# Altium schematic symbol library разъемы импортные.SchLib: 50 symbols
Pins are listed as number, name and electrical type; pins without a type are passive.

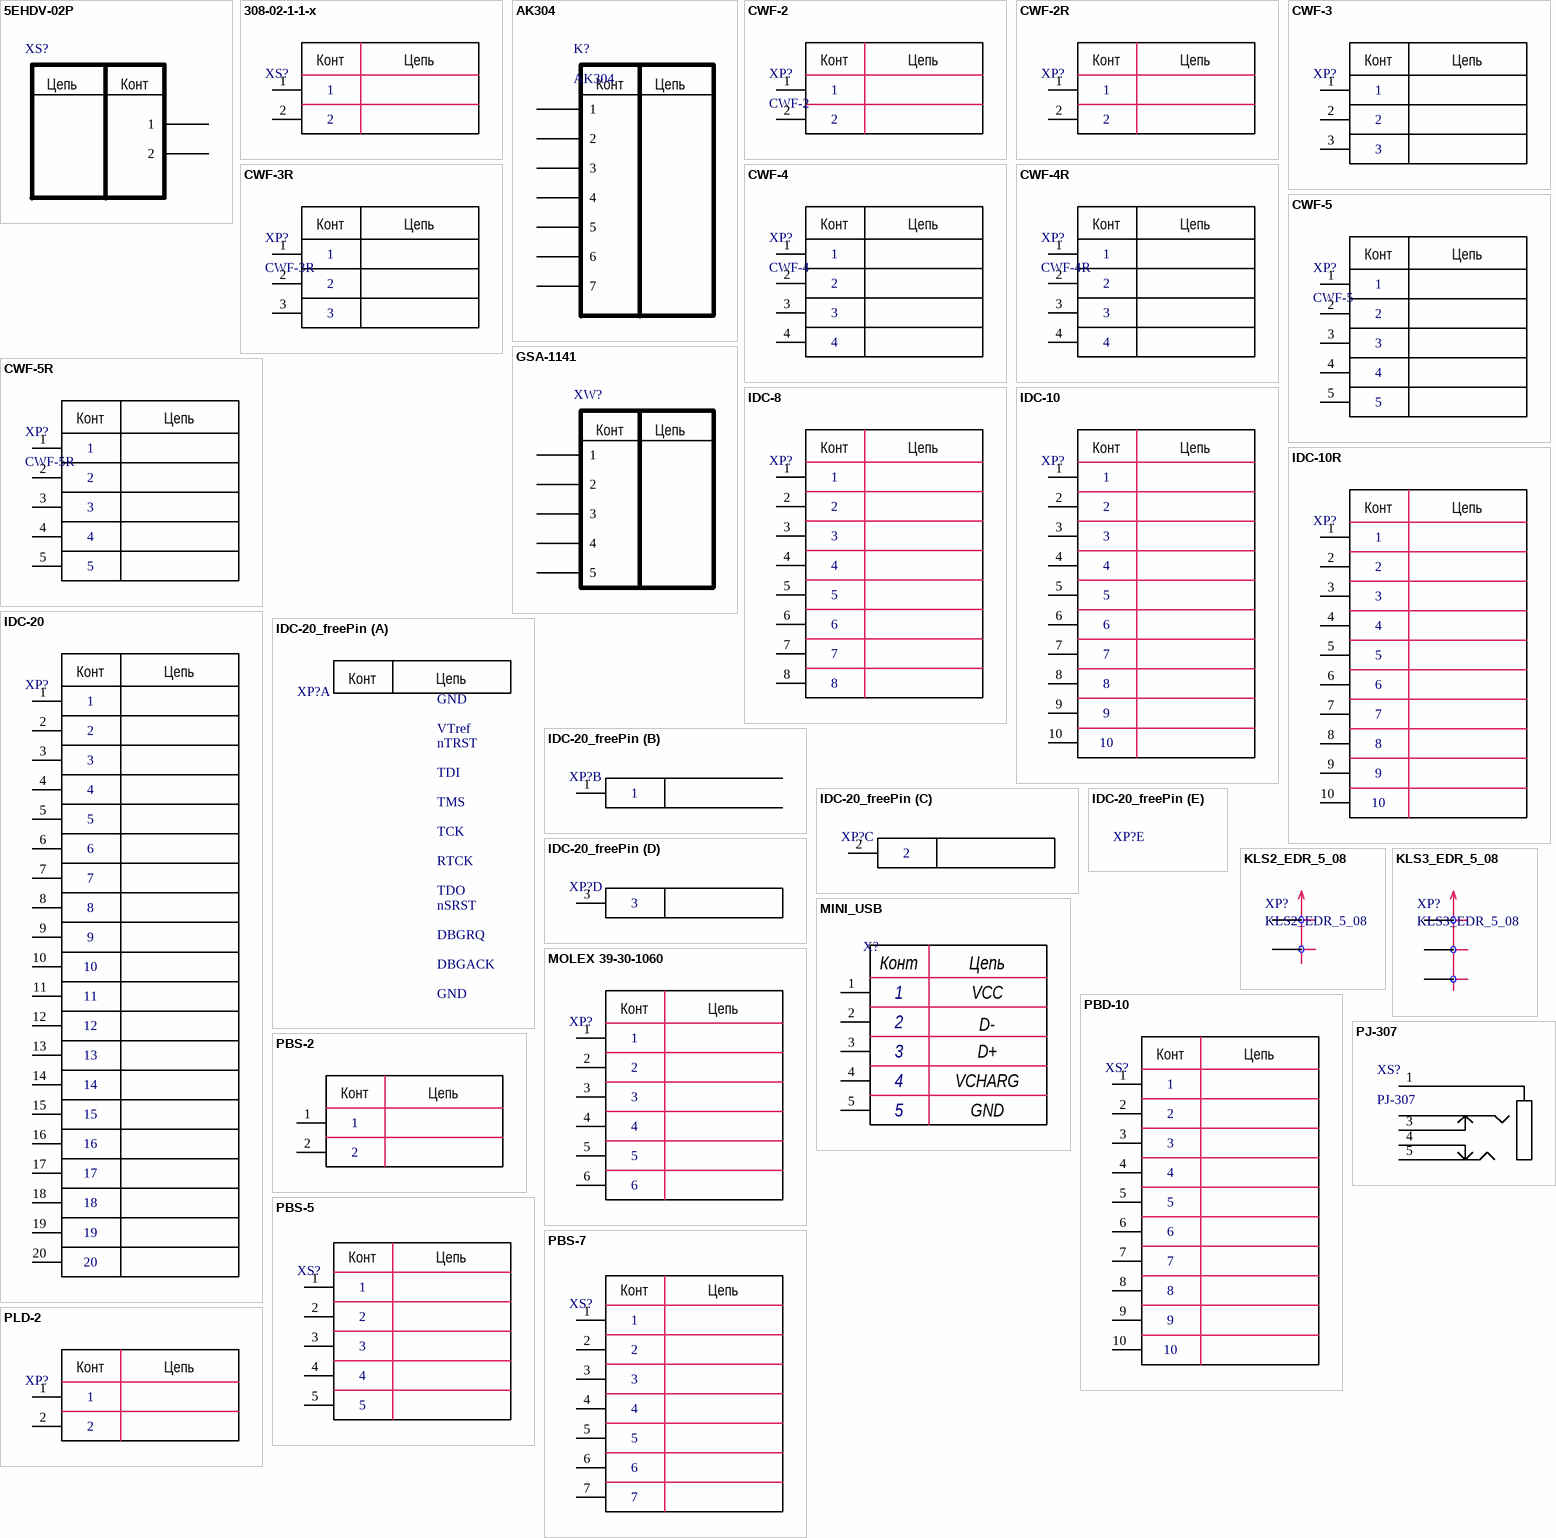
[diagram p0: symbols 5EHDV-02P to PLD-2]

## 5EHDV-02P
designator XS?  (value not drawn)
footprint 5EHDV-02P
pins: 1, 2
text: Цепь; Конт

## 308-02-1-1-x
designator XS?  (value not drawn)
footprint 308-02-1-1-x
pins: 1, 2
text: Конт; Цепь

## AK304
designator K?
footprint AK304
pins: 1, 2, 3, 4, 5, 6, 7
text: Конт; Цепь

## CWF-2
designator XP?
footprint CWF-2
pins: 1, 2
text: Конт; Цепь

## CWF-2R
designator XP?  (value not drawn)
footprint CWF-2R
pins: 1, 2
text: Конт; Цепь

## CWF-3
designator XP?  (value not drawn)
Manufacturer: Connfly electronic; ManufacturerPartNumber: DS1069-3MVW6X; Package: CWF-3
footprint CWF-3
pins: 1, 2, 3
text: Конт; Цепь

## CWF-3R
designator XP?
Manufacturer: Connfly electronic; ManufacturerPartNumber: DS1069-3MRW6SA; Package: CWF-3R
footprint CWF-3R
pins: 1, 2, 3
text: Конт; Цепь

## CWF-4
designator XP?
Manufacturer: Connfly electronic; ManufacturerPartNumber: DS1069-4MVW6X; Package: CWF-4
footprint CWF-4
pins: 1, 2, 3, 4
text: Конт; Цепь

## CWF-4R
designator XP?
Manufacturer: Connfly electronic; ManufacturerPartNumber: DS1069-4MRW6SA; Package: CWF-4R
footprint CWF-4R
pins: 1, 2, 3, 4
text: Конт; Цепь

## CWF-5
designator XP?
Manufacturer: Connfly electronic; ManufacturerPartNumber: DS1069-5MVW6X; Package: CWF-5
footprint CWF-5
pins: 1, 2, 3, 4, 5
text: Конт; Цепь

## CWF-5R
designator XP?
Manufacturer: Connfly electronic; ManufacturerPartNumber: DS1069-5MRW6SA; Package: CWF-5R
footprint CWF-5R
pins: 1, 2, 3, 4, 5
text: Конт; Цепь

## GSA-1141
designator XW?  (value not drawn)
footprint GSA-1141
pins: 1, 2, 3, 4, 5
text: Конт; Цепь

## IDC-8
designator XP?  (value not drawn)
footprint IDC-8
pins: 1, 2, 3, 4, 5, 6, 7, 8
text: Конт; Цепь

## IDC-10
designator XP?  (value not drawn)
footprint IDC-10
pins: 1, 2, 3, 4, 5, 6, 7, 8, 9, 10
text: Конт; Цепь

## IDC-10R
designator XP?  (value not drawn)
Manufacturer: Connfly electronic; ManufacturerPartNumber: DS1013-10RSiB-B-0; Package: IDC-10R
footprint IDC-10R
pins: 1, 2, 3, 4, 5, 6, 7, 8, 9, 10
text: Конт; Цепь

## IDC-20
designator XP?  (value not drawn)
footprint IDC-20S
footprint IDC-20R
pins: 1, 2, 3, 4, 5, 6, 7, 8, 9, 10, 11, 12, 13, 14, 15, 16, 17, 18, 19, 20
text: Конт; Цепь

## IDC-20_freePin
designator XP?, comment IDC-20  (value not drawn)
footprint IDC-20S
footprint IDC-20R
part B pins: 1
part C pins: 2
part D pins: 3
part A text: Конт; Цепь; GND; VTref; nTRST; TDI; TMS; TCK; RTCK; TDO; nSRST; DBGRQ; DBGACK

## KLS2_EDR_5_08
designator XP?
footprint KLS-EDR-5_08
pins: 1, 2

## KLS3_EDR_5_08
designator XP?
footprint KLS3-EDR-5_08
pins: 1, 2, 3

## MINI_USB
designator X?  (value not drawn)
footprint MINI_USB
pins: 1, 2, 3, 4, 5
text: Конт; Цепь; VCC; D-; D+; VCHARG; GND

## MOLEX 39-30-1060
designator XP?  (value not drawn)
footprint MOLEX 2*4 4.2mm
pins: 1, 2, 3, 4, 5, 6
text: Конт; Цепь

## PBD-10
designator XS?  (value not drawn)
Rem: *; Value: *; Tolerance: *; Power/Voltage: *; TKE: *; ManufacturerPartNumber: *; Manufacturer: *; Quantity: *; Примечание: *
footprint PBD-10
pins: 1, 2, 3, 4, 5, 6, 7, 8, 9, 10
text: Конт; Цепь

## PBS-2
designator XS?  (value not drawn)
Rem: *; Value: *; Tolerance: *; Power/Voltage: *; TKE: *; ManufacturerPartNumber: *; Manufacturer: *; Quantity: *; Примечание: *
footprint PBS-2
pins: 1, 2
text: Конт; Цепь

## PBS-5
designator XS?  (value not drawn)
Rem: *; Value: *; Tolerance: *; Power/Voltage: *; TKE: *; ManufacturerPartNumber: *; Manufacturer: *; Quantity: *; Примечание: *; Price: *
footprint PBS-5
pins: 1, 2, 3, 4, 5
text: Конт; Цепь

## PBS-7
designator XS?  (value not drawn)
ManufacturerPartNumber: DS1023-1*7S21; Manufacturer: Connfly electronic; Rem: *; Value: *; Tolerance: *; Power/Voltage: *; TKE: *; Quantity: *; Примечание: *; Price: *
footprint PBS-7
pins: 1, 2, 3, 4, 5, 6, 7
text: Конт; Цепь

## PJ-307
designator XS?
footprint PJ-307
pins: 1, 2, 3, 4, 5

## PLD-2
designator XP?  (value not drawn)
footprint PLD-2
pins: 1, 2
text: Конт; Цепь

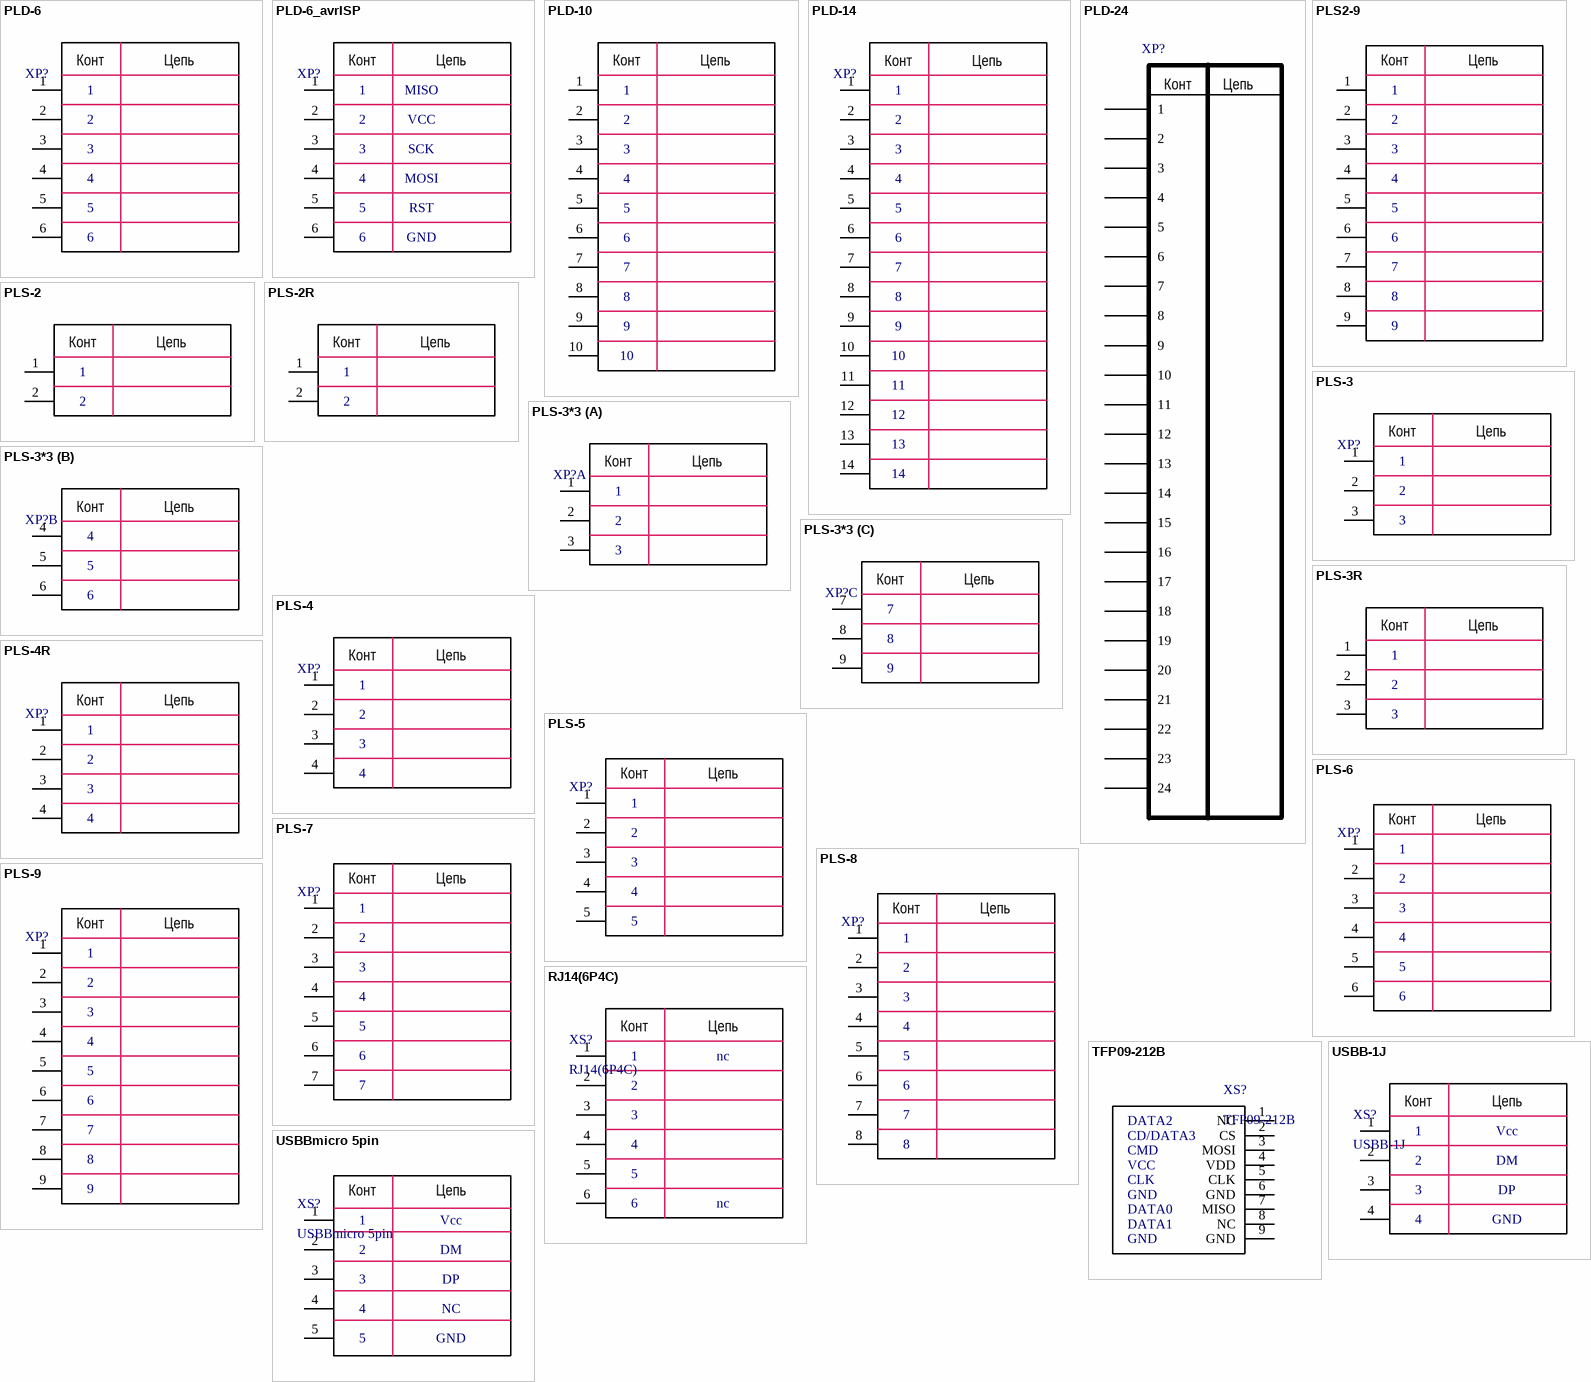
[diagram p1: symbols PLD-6 to USBBmicro 5pin]

## PLD-6
designator XP?  (value not drawn)
footprint PLD-6
pins: 1, 2, 3, 4, 5, 6
text: Конт; Цепь

## PLD-6_avrISP
designator XP?  (value not drawn)
footprint PLD-6
pins: 1, 2, 3, 4, 5, 6
text: Конт; Цепь; MISO; VCC; SCK; MOSI; RST; GND

## PLD-10
designator XP?  (value not drawn)
Rem: *; Value: *; Tolerance: *; Power/Voltage: *; TKE: *; ManufacturerPartNumber: *; Manufacturer: *; Quantity: *; Примечание: *
footprint PLD-10
footprint PLD-10_Outside
pins: 1, 2, 3, 4, 5, 6, 7, 8, 9, 10
text: Конт; Цепь

## PLD-14
designator XP?  (value not drawn)
footprint PLD-14
pins: 1, 2, 3, 4, 5, 6, 7, 8, 9, 10, 11, 12, 13, 14
text: Конт; Цепь

## PLD-24
designator XP?  (value not drawn)
footprint PLD-24
pins: 1, 2, 3, 4, 5, 6, 7, 8, 9, 10, 11, 12, 13, 14, 15, 16, 17, 18, 19, 20, 21, 22, 23, 24
text: Конт; Цепь

## PLS2-9
designator XP?  (value not drawn)
Rem: *; Value: *; Tolerance: *; Power/Voltage: *; TKE: *; ManufacturerPartNumber: *; Manufacturer: *; Quantity: *; Примечание: *
footprint PLS2-9
pins: 1, 2, 3, 4, 5, 6, 7, 8, 9
text: Конт; Цепь

## PLS-2
designator XP?, comment **  (value not drawn)
PLS-2; Rem: *; Value: *; Tolerance: *; Power/Voltage: *; TKE: *; ManufacturerPartNumber: *; Manufacturer: *; Quantity: *; Примечание: *
footprint PLS-2
pins: 1, 2
text: Конт; Цепь

## PLS-2R
designator XP?, comment **  (value not drawn)
PLS-2R; Rem: *; Value: *; Tolerance: *; Power/Voltage: *; TKE: *; ManufacturerPartNumber: *; Manufacturer: *; Quantity: *; Примечание: *
footprint PLS-2R
pins: 1, 2
text: Конт; Цепь

## PLS-3
designator XP?, comment **  (value not drawn)
PLS-3; Rem: *; Value: *; Tolerance: *; Power/Voltage: *; TKE: *; ManufacturerPartNumber: *; Manufacturer: *; Quantity: *; Примечание: *
footprint PLS-3
pins: 1, 2, 3
text: Конт; Цепь

## PLS-3*3
designator XP?  (value not drawn)
footprint PLS-3*3
part A pins: 1, 2, 3
part B pins: 4, 5  , 6
part C pins: 7, 8, 9
part A text: Конт; Цепь
part B text: Конт; Цепь
part C text: Конт; Цепь

## PLS-3R
designator XP?, comment **  (value not drawn)
PLS-3R; Rem: *; Value: *; Tolerance: *; Power/Voltage: *; TKE: *; ManufacturerPartNumber: *; Manufacturer: *; Quantity: *; Примечание: *
footprint PLS-3R
pins: 1, 2, 3
text: Конт; Цепь

## PLS-4
designator XP?  (value not drawn)
footprint PLS-4
footprint PLS-4_Empty
pins: 1, 2, 3, 4
text: Конт; Цепь

## PLS-4R
designator XP?  (value not drawn)
footprint PLS-4R
pins: 1, 2, 3, 4
text: Конт; Цепь

## PLS-5
designator XP?  (value not drawn)
footprint PLS-5
pins: 1, 2, 3, 4, 5
text: Конт; Цепь

## PLS-6
designator XP?  (value not drawn)
footprint PLS-6
footprint PLS-6_empty
pins: 1, 2, 3, 4, 5, 6
text: Конт; Цепь

## PLS-7
designator XP?  (value not drawn)
Manufacturer: Connfly electronic; ManufacturerPartNumber: DS1021-1*7SF112-B
footprint PLS-7
pins: 1, 2, 3, 4, 5, 6, 7
text: Конт; Цепь

## PLS-8
designator XP?  (value not drawn)
footprint PLS-8
pins: 1, 2, 3, 4, 5, 6, 7, 8
text: Конт; Цепь

## PLS-9
designator XP?  (value not drawn)
footprint PLS-9
pins: 1, 2, 3, 4, 5, 6, 7, 8, 9
text: Конт; Цепь

## RJ14(6P4C)
designator XS?
footprint RJ14(6P4C)
pins: 1, 2, 3, 4, 5, 6
text: Конт; Цепь; nc

## TFP09-212B
designator XS?
footprint TFP09-2-12B
pins: 1 NC, 2 CS, 3 MOSI, 4 VDD, 5 CLK, 6 GND, 7 MISO, 8 NC, 9 GND
text: DATA2; CD/DATA3; CMD; VCC; DATA0; DATA1

## USBB-1J
designator XS?
footprint USBB-1J
pins: 1, 2, 3, 4
text: Конт; Цепь; Vcc; DM; DP; GND

## USBBmicro 5pin
designator XS?
footprint USBBMicro5Pin
footprint USB_micro_5pin_HW-MC-5F-02
pins: 1, 2, 3, 4, 5
text: Конт; Цепь; Vcc; DM; DP; NC; GND

## РЫБА
designator C?  (value not drawn)
Rem: *; Value: *; Tolerance: *; Power/Voltage: *; TKE: *; ManufacturerPartNumber: *; Manufacturer: *; Quantity: *; Примечание: *